# EAGLE library part OPAMP/DUAL (library audioint)
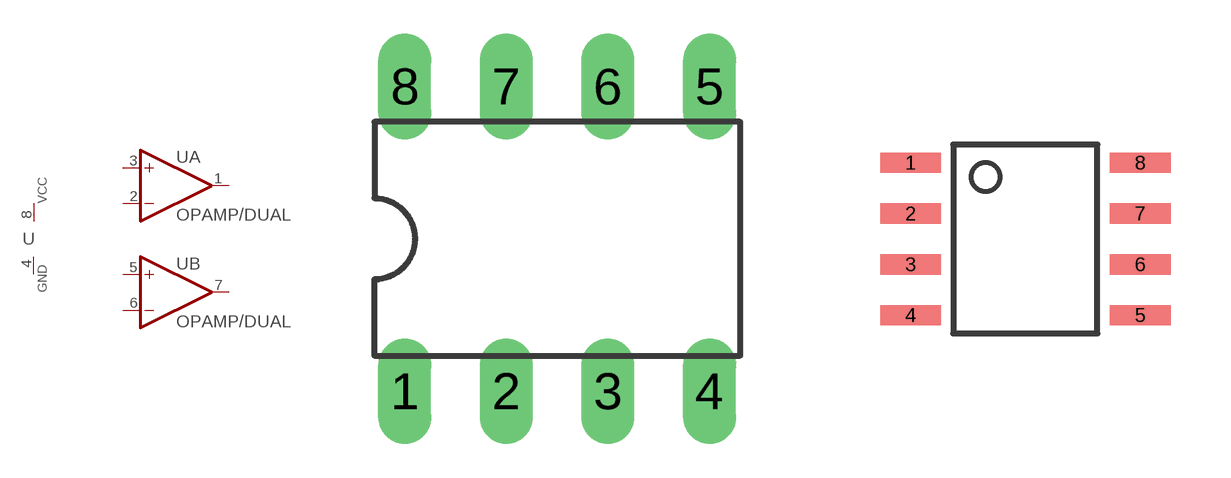
[diagram p26: symbol with the pads of 8-DIP; footprints 8-DIP, 8-SOIC]

Designator prefix U; gates A=OP-AMP B=OP-AMP G$3=PWR-GND

## OPAMP/DUALDIP  [8-DIP]
1  A:OUT  out
2  A:-IN  in
3  A:+IN  in
4  G$3:GND  pwr
5  B:+IN  in
6  B:-IN  in
7  B:OUT  out
8  G$3:VCC  pwr

## OPAMP/DUALSOIC  [8-SOIC]
Pads as for 8-DIP

## Footprint 8-DIP (pad centres in mm)
drill 0.813 long: 1 -3.81,-3.81; 2 -1.27,-3.81; 3 1.27,-3.81; 4 3.81,-3.81; 5 3.81,3.81; 6 1.27,3.81; 7 -1.27,3.81; 8 -3.81,3.81

## Footprint 8-SOIC (pad centres in mm)
smd 1.524 x 0.508: 1 -2.87,1.905; 2 -2.87,0.635; 3 -2.87,-0.635; 4 -2.87,-1.905; 5 2.87,-1.905; 6 2.87,-0.635; 7 2.87,0.635; 8 2.87,1.905